# EAGLE library part DC-DC_CONVERTER (library SparkFun-20100301)
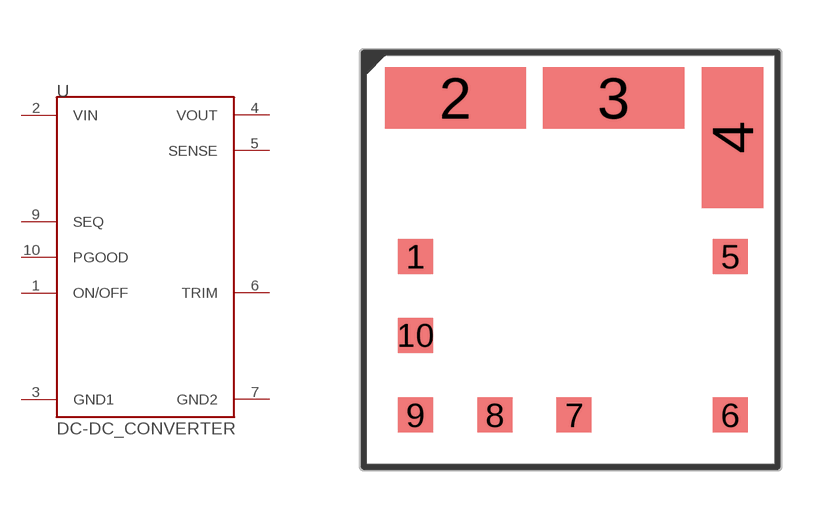
[diagram p216: symbol with the pads of DC-DC_CONVERTER; footprint DC-DC_CONVERTER]

Designator prefix -

## DC-DC_CONVERTER  [DC-DC_CONVERTER]
1  ON/OFF
2  VIN
3  GND1
4  VOUT
5  SENSE
6  TRIM
7  GND2
9  SEQ
10  PGOOD

## Footprint DC-DC_CONVERTER (pad centres in mm)
smd 1.01 x 1.01: 1 -4.48,0.1; 5 4.61,0.1; 6 4.61,-4.48; 7 0.1,-4.48; 8 -2.19,-4.48; 9 -4.48,-4.48; 10 -4.48,-2.19
smd 4.07 x 1.77: 2 -3.33,4.67; 3 1.24,4.67
smd 1.77 x 4.07: 4 4.67,3.53